# EAGLE library part IMAS980TH (library IMAS923TH)
eMOD iMAS923TH EmOne (Thailand) Co.,Ltd. 39/1 Soi. Sangkhom Songkhro 12 Lat Phrao, Bangkok 10230 Thailand Eable library Created by EmOne @ 2018
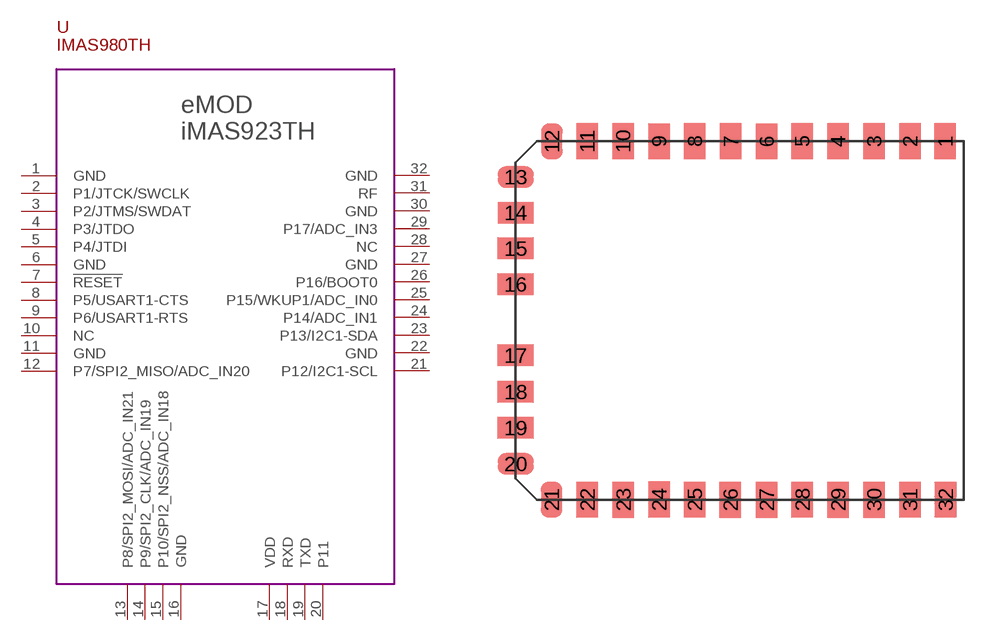
[diagram p0: symbol with the pads of IMAS923TH; footprint IMAS923TH]

Designator prefix U

## IMAS980TH  [IMAS923TH]
1  GND  pwr
2  P1/JTCK/SWCLK
3  P2/JTMS/SWDAT
4  P3/JTDO
5  P4/JTDI
6  GND  pwr
7  !RESET  pas
8  P5/USART1-CTS
9  P6/USART1-RTS
10  NC  nc
11  GND  pwr
12  P7/SPI2_MISO/ADC_IN20
13  P8/SPI2_MOSI/ADC_IN21
14  P9/SPI2_CLK/ADC_IN19
15  P10/SPI2_NSS/ADC_IN18
16  GND  pwr
17  VDD  pwr
18  RXD
19  TXD
20  P11
21  P12/I2C1-SCL
22  GND  pwr
23  P13/I2C1-SDA
24  P14/ADC_IN1
25  P15/WKUP1/ADC_IN0
26  P16/BOOT0  pas
27  GND  pwr
28  NC  nc
29  P17/ADC_IN3
30  GND  pwr
31  RF
32  GND  pwr

## Footprint IMAS923TH (pad centres in mm)
Footprint of the iMAS923TH (top view) Eable library created by EmOne
smd 1.2 x 2: 1 10.97,10.002; 2 9.004,10.007; 3 7.002,10.002; 4 4.985,10.002; 5 2.983,10.007; 6 0.999,10; 7 -0.988,10.005; 8 -3.006,10.002; 9 -5.003,10; 10 -7.01,10.005; 11 -9.013,10.007; 12 -10.982,9.997; 21 -10.995,-10; 22 -9.003,-9.997; 23 -6.99,-10.003; 24 -4.998,-9.992; 25 -3.006,-9.997; 26 -1.016,-10.003; 27 1.004,-10.003; 28 2.998,-9.997; 29 4.994,-10.003; 30 7.002,-10.003; 31 9.004,-10; 32 10.991,-9.997
smd 2 x 1.2: 13 -12.997,8.011; 14 -12.997,6.018; 15 -13,4.019; 16 -13,2.023; 17 -12.998,-1.95; 18 -12.998,-3.98; 19 -13.003,-5.991; 20 -12.998,-7.998